# Altium footprint library 18-Pcblib_Delay.PcbLib: 7 footprints
Each footprint in its own frame and in the unit in brackets; x right, y up, seen from the top. Pads: shape width x height; smd on the part's side, far side on the other; paste and mask are expansions set on the pad; w line width, h text height; cw(c..) or ccw(c..) is an arc to the next point about the centre after c.
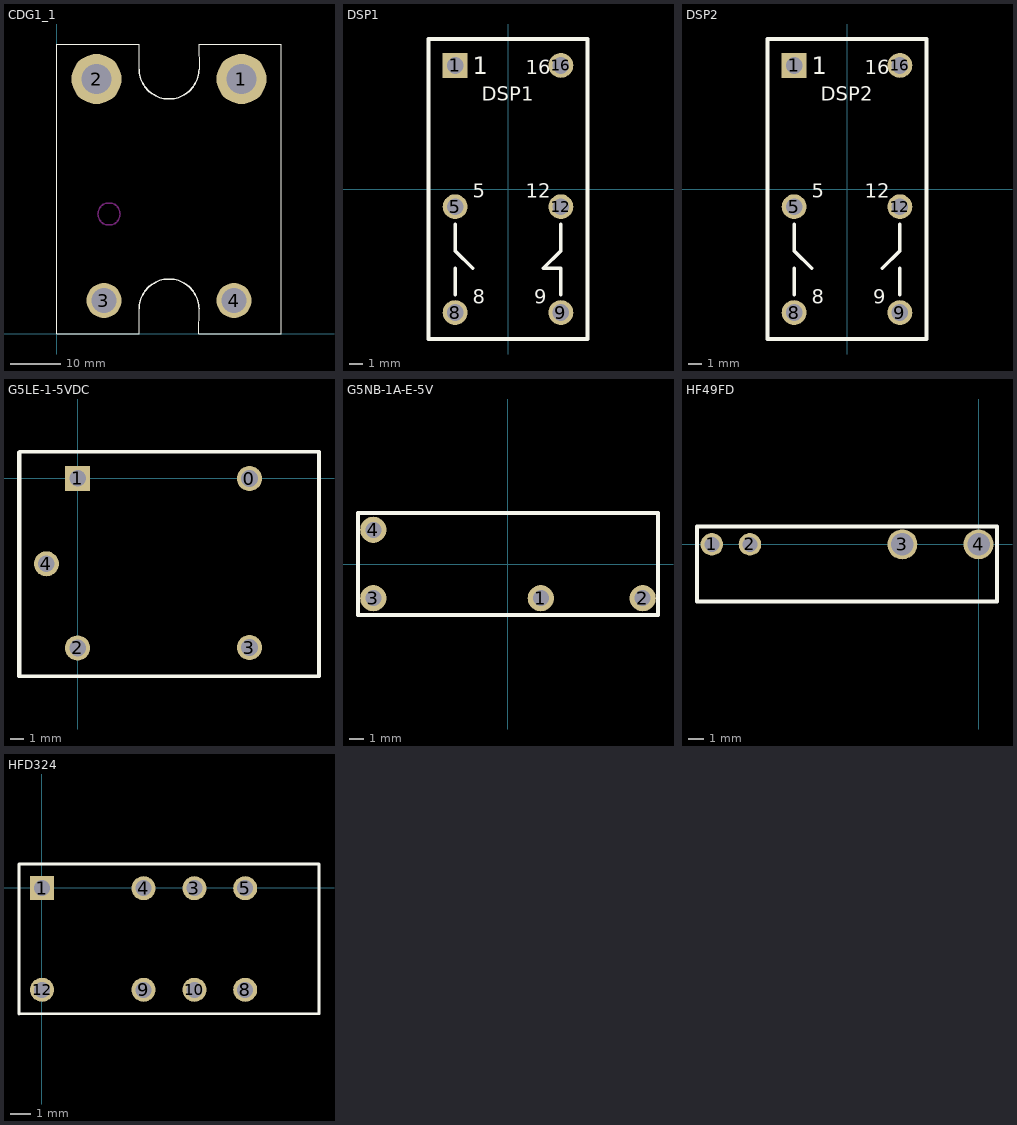
[diagram p0: the footprints below, top view; thin cyan lines are the x and y axes]

## CDG1_1 [mm]
height 1.1
pads (4):
  round 10 hole 6: 1(37,51) 2(8,51)
  round 7 hole 5: 3(9.5,6.7) 4(35.5,6.7)
Top Overlay:
  lines w0.152: 16.5,5 16.5,0 0,0 0,58 16.5,58 16.5,53 ; 28.5,5 28.5,0 45,0 45,58 28.5,58 28.5,53
  lines w0.254: 16.5,5 cw(c22.5,5) 28.5,5 ; 16.5,53 ccw(c22.5,53) 28.5,53
Keep-Out Layer:
  circle w0.254: c10.5,24 r2.2

## DSP1 [mil]
pads (6):
  rect 70x70 hole 47: 1(-150,350)
  round 70 hole 47: 5(-150,-50) 8(-150,-350) 9(150,-350) 12(150,-50) 16(150,350)
Top Overlay:
  lines w10: -150,-300 -150,-225 ; -150,-100 -150,-175 -100,-225 ; 150,-300 150,-225 100,-225 150,-175 150,-100
  lines w12: -225,-425 -225,425 225,425 225,-425 -225,-425
  text "1" at -100,325 h50
  text "5" at -100,-25 h40
  text "8" at -100,-325 h40
  text "9" at 75,-325 h40
  text "12" at 50,-25 h40
  text "16" at 50,325 h40
  text "DSP1" at -75,250 h40
3D body: height 448.82, standoff -118.11, extent -200,-409.6 197.64,389.6

## DSP2 [mil]
pads (6):
  rect 70x70 hole 47: 1(-150,350)
  round 70 hole 47: 5(-150,-50) 8(-150,-350) 9(150,-350) 12(150,-50) 16(150,350)
Top Overlay:
  lines w10: -150,-300 -150,-225 ; -150,-100 -150,-175 -100,-225 ; 100,-225 150,-175 150,-100 ; 150,-300 150,-225
  lines w12: -225,-425 -225,425 225,425 225,-425 -225,-425
  text "1" at -100,325 h50
  text "5" at -100,-25 h40
  text "8" at -100,-325 h40
  text "9" at 75,-325 h40
  text "12" at 50,-25 h40
  text "16" at 50,325 h40
  text "DSP2" at -75,250 h40
3D body: height 448.82, standoff -118.11, extent -198.82,-409.21 198.82,390

## G5LE-1-5VDC [mm]
pads (5):
  round 1.8 hole 1.2: 0(12.349,-0.016) 2(0,-12.192) 3(12.349,-12.16) 4(-2.247,-6.144)
  rect 1.8x1.8 hole 1.2: 1(0,0)
Top Overlay:
  lines w0.254: -4.213,1.88 -4.213,-14.24 17.349,-14.24 ; -4.167,-14.15 -4.167,1.926 17.349,1.926 ; -3.987,1.926 17.349,1.926 ; 17.349,-14.24 17.349,1.926 ; 17.349,-14.24 17.349,1.926
3D body: height 16, standoff -2, extent -3.277,-13.995 15.723,1.505

## G5NB-1A-E-5V [mm] "ŷ"
pads (4):
  round 1.8 hole 1.1: 1(2.25,-2.35) 2(9.25,-2.35) 3(-9.25,-2.35) 4(-9.25,2.35)
Top Overlay:
  lines w0.254: -10.3,-3.5 10.3,-3.5 10.3,3.5 -10.3,3.5 -10.3,-3.5
3D body: height 15.39, standoff -3.32, extent -10.175,-3.505 10.225,3.495

## HF49FD [mm]
pads (4):
  round 1.5 hole 1: 1(-17.785,-0.003) 2(-15.245,-0.003)
  round 2 hole 1.5: 3(-5.085,-0.003) 4(-0.005,-0.003)
Top Overlay:
  lines w0.254: -18.773,-3.815 -18.773,1.185 1.227,1.185 1.227,-3.815 -18.773,-3.815

## HFD324 [mm]
pads (8):
  rect 1.2x1.2 hole 0.8: 1(0.012,-0.02)
  round 1.2 hole 0.8: 3(7.632,-0.02) 4(5.092,-0.02) 5(10.172,-0.02) 8(10.172,-5.1) 9(5.092,-5.1) 10(7.632,-5.1) 12(0.012,-5.1)
Top Overlay:
  lines w0.127: -1.14,-6.311 -1.134,-6.305 13.853,-6.305 13.865,-6.293 13.865,1.18 13.853,1.191 12.265,1.191 -1.134,1.191 -1.14,1.186 -1.14,-6.311